# Altium schematic symbol library Header.SchLib: 57 symbols
Pins are listed as number, name and electrical type; pins without a type are passive.

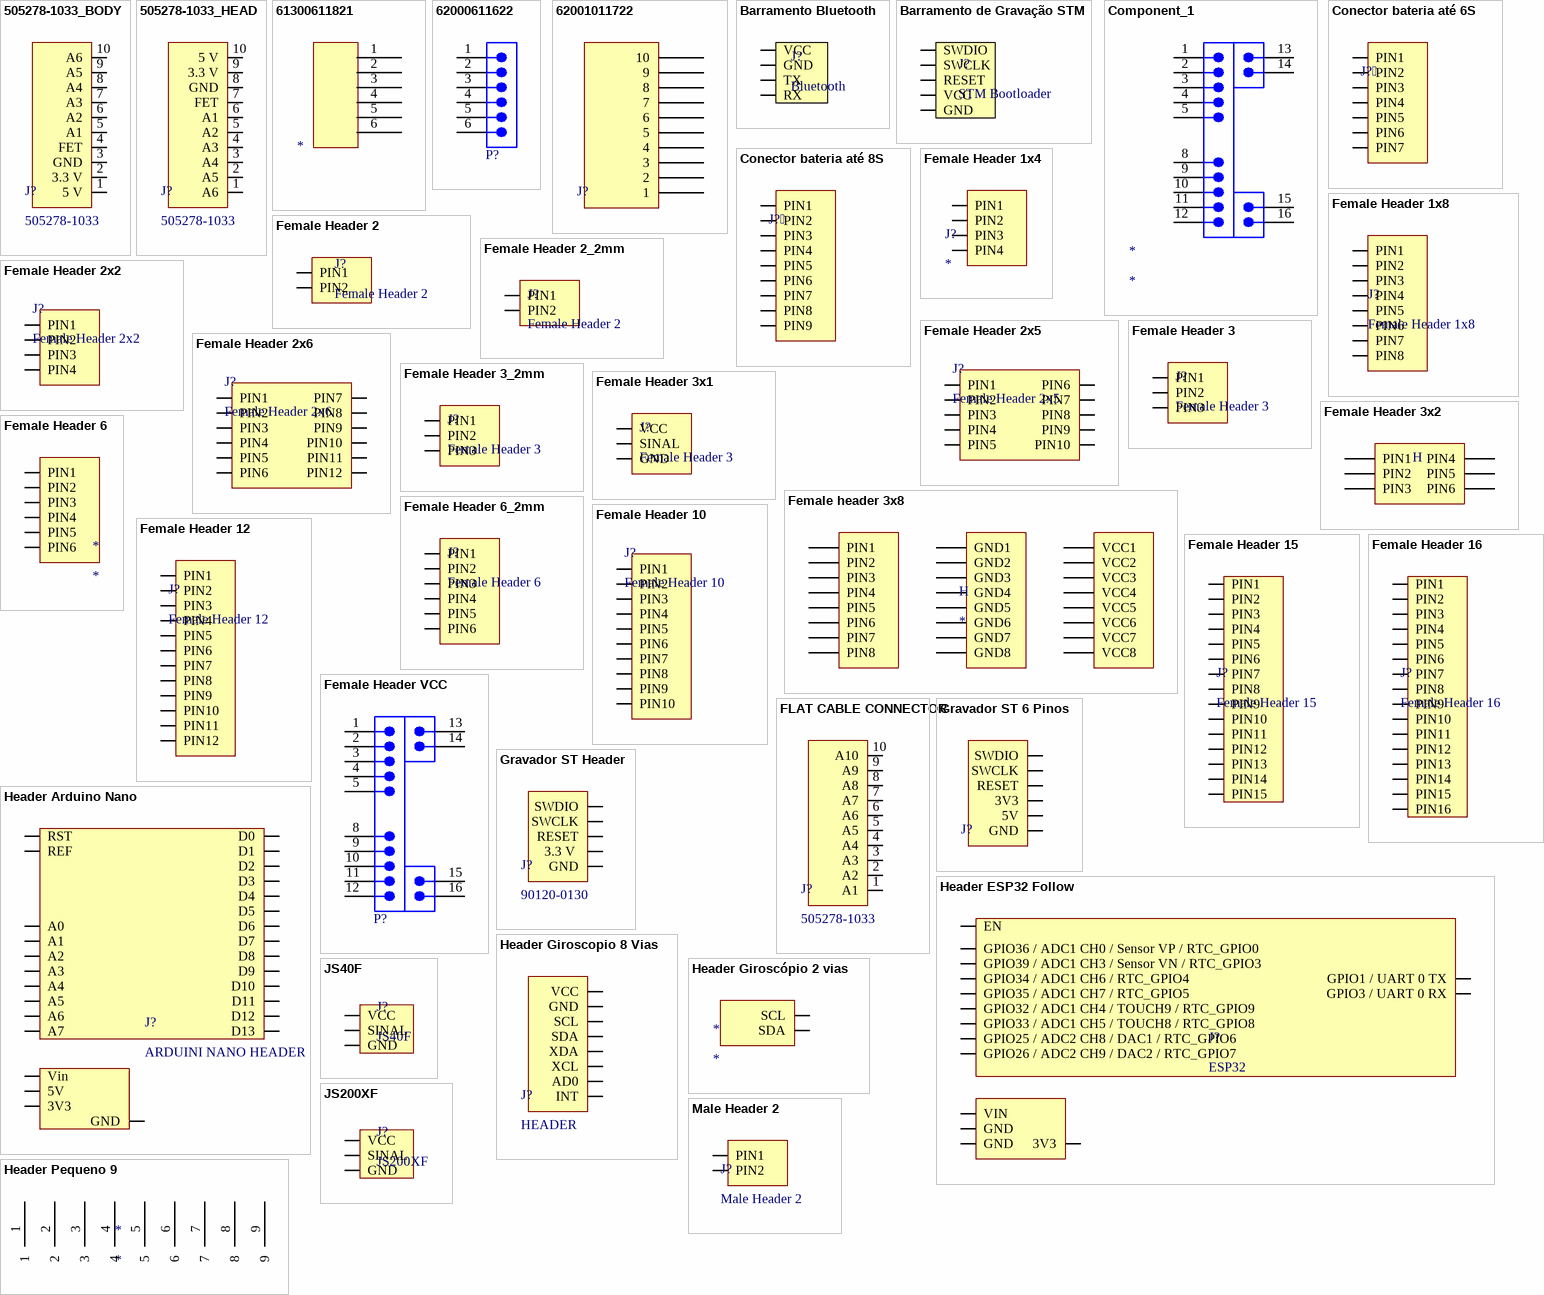
[diagram p0: symbols 505278-1033_BODY to Male Header 2]

## 505278-1033_BODY
designator J?, comment 505278-1033
CONN FFC/FPC HORZ 10POS 0.50MM; Manufacturer: Molex; Current Rating (Amps): 500mA; Number of Positions: 10; Library Control - Checked Footprint: Yes; Library Control - Last Project that Used: Follow-Final; Library Control - Person that Checked Footprint: Lucas; Library Control - Person that did the Last Update Footprint: Mateus(Dimas); Supplier 1: Mouser; Part Number: 505278-1033; Category: Connectors; Price: 1=0,51000, 10=0,42900, 100=0,33400 (USD); Mounting Type: Right Angle; Contact Material: Tin; Operating Temperature: -40°C ~ 85°C; Library Ref: Connectors; Number of Rows: 1; Termination: SMD; Insulation Material: Liquid Crystal Polymer; Contact Type: FFC/FPC; Pitch: 0.50mm; Contact Length - Mating: 0.50mm; Supplier Part Number 1: 538-505278-1033; Library Control - Checked Schematic: Yes; Library Control - Last Update: 24/04/2021 00:25; Library Control - Person that Checked Schematic: Lucas; Library Control - Person that did the Last Update Schematic: Mateus(Dimas); ComponentLink1Description: Datasheet; ComponentLink1URL: https://br.mouser.com/datasheet/2/276/2/5052781033_FFC_FPC_CONNECTORS-772019.pdf; ComponentLink2Description: Mouser Link; ComponentLink2URL: https://br.mouser.com/ProductDetail/Molex/505278-1033?qs=c8NFF48pVsDStgrQCBOSTg%3D%3D
footprint FPC_CON (Small Outline IC (SOIC), 1.27 mm pitch; 8 pin, 4.90 mm L X 3.90 mm W X 1.75 mm H body)
pins: 1 5 V, 2 3.3 V, 3 GND, 4 FET, 5 A1, 6 A2, 7 A3, 8 A4, 9 A5, 10 A6

## 505278-1033_HEAD
designator J?, comment 505278-1033
CONN FFC/FPC HORZ 10POS 0.50MM; Manufacturer: Molex; Current Rating (Amps): 500mA; Number of Positions: 10; Library Control - Checked Footprint: Yes; Library Control - Last Project that Used: Follow-Final; Library Control - Person that Checked Footprint: Lucas; Library Control - Person that did the Last Update Footprint: Mateus(Dimas); Supplier 1: Mouser; Part Number: 505278-1033; Category: Connectors; Price: 1=0,51000, 10=0,42900, 100=0,33400 (USD); Mounting Type: Right Angle; Contact Material: Tin; Operating Temperature: -40°C ~ 85°C; Library Ref: Connectors; Number of Rows: 1; Termination: SMD; Insulation Material: Liquid Crystal Polymer; Contact Type: FFC/FPC; Pitch: 0.50mm; Contact Length - Mating: 0.50mm; Supplier Part Number 1: 538-505278-1033; Library Control - Checked Schematic: Yes; Library Control - Last Update: 24/04/2021 00:25; Library Control - Person that Checked Schematic: Lucas; Library Control - Person that did the Last Update Schematic: Mateus(Dimas); ComponentLink1Description: Datasheet; ComponentLink1URL: https://br.mouser.com/datasheet/2/276/2/5052781033_FFC_FPC_CONNECTORS-772019.pdf; ComponentLink2Description: Mouser Link; ComponentLink2URL: https://br.mouser.com/ProductDetail/Molex/505278-1033?qs=c8NFF48pVsDStgrQCBOSTg%3D%3D
footprint FPC_CON (Small Outline IC (SOIC), 1.27 mm pitch; 8 pin, 4.90 mm L X 3.90 mm W X 1.75 mm H body)
pins: 1 A6, 2 A5, 3 A4, 4 A3, 5 A2, 6 A1, 7 FET, 8 GND, 9 3.3 V, 10 5 V

## 61300611821
designator *
footprint 61300611821
pins: 1, 2, 3, 4, 5, 6

## 62000611622
designator P?  (value not drawn)
WR-WTB Male Vertical Shrouded Header, pitch 2mm, 6pins; Manufacturer: Wurth Elektronik; Contact Resistance: 20mΩ; Rated Current: 2A; Working Voltage: 125VAC; Withstanding Voltage: 800VAC; ComponentLink1Description: Website Link; ComponentLink1URL: https://www.we-online.com/redexpert/article/62000611622?ad; ComponentLink2Description: Datasheet Link; ComponentLink2URL: https://www.we-online.com/redexpert/spec/62000611622?ad; Manufacturer Part Number: 62000611622; Category: Wire-to-Board Connectors; Match Code: WR-WTB; Mount: Through Hole; Operating Temperature Max: 85°C; Operating Temperature Min: -25°C; Packaging: Bag; Length: 14mm; Width: 4.7mm; Height: 6.1mm; Gender: Male; Number of Pins: 6; Number of Rows: 1; Orientation: Vertical; Pitch: 2mm
footprint 62000611622 (2.00mm Male Vertical Shrouded Header, 6p)
pins: 1, 2, 3, 4, 5, 6

## 62001011722
designator J?, comment WR-WTB 2.00mm  (value not drawn)
WR-WTB 2.00 mm Male Horizontal Shrouded Header
footprint WR-WTB 2.00 mm Male Horizontal Shrouded Header (62001011722)
pins: 1, 2, 3, 4, 5, 6, 7, 8, 9, 10

## Barramento Bluetooth
designator J?, comment Bluetooth
BARRAMENTO BLUETOOTH HC-06; Number of Contacts: 4; Bluetooth Mode: Slave Only; Operating Voltage: 3,6 / 6 (V); Max Range: 10m; Frequency: 2,4 GHz; Modulation: GFSK (Gaussian Frequency Shift Keying); Recomended Operating Configuration: 5V @ 50mA; Maximum Serial Transmission Rate: 9600 bps; Library Ref: Header
footprint BLUETOOTH
pins: GND, RX, TX, VCC

## Barramento de Gravação STM
designator J?, comment STM Bootloader
BARRAMENTO DE GRAVAÇÃO; Number of Contacts: 5; Library Ref: Header
footprint STM BOOTLOADER
pins: CLK SWCLK, DIO SWDIO, GND, RESET, VCC

## Component_1
designator *
footprint Female Header 2
footprint Female Header 12
pins: 1, 2, 3, 4, 5, 8, 9, 10, 11, 12, 13, 14, 15, 16

## Conector bateria até 6S
designator J?
Conector bateria até 6S; Number of Contacts: 7; Library Control - Person that did the Last Update Schematic: Marcos; System: Connector; Library Ref: Header; Library Control - Checked Footprint: *; Library Control - Checked Schematic: *; Library Control - Last Project that Used: *; Library Control - Last Update: *; Library Control - Person that Checked Footprint: *; Library Control - Person that Checked Schematic: *; Library Control - Persont that did the Last Update Footprint: Marcos
footprint Conector bateria 6S
pins: PIN1, PIN2, PIN3, PIN4, PIN5, PIN6, PIN7

## Conector bateria até 8S
designator J?
Conector bateria até 8S; Number of Contacts: 9; Library Control - Person that did the Last Update Schematic: Marcos; System: Connector; Library Ref: Header; Library Control - Checked Footprint: *; Library Control - Checked Schematic: *; Library Control - Last Project that Used: *; Library Control - Last Update: *; Library Control - Person that Checked Footprint: *; Library Control - Person that Checked Schematic: *; Library Control - Persont that did the Last Update Footprint: Marcos
footprint Conector bateria 8S
pins: PIN1, PIN2, PIN3, PIN4, PIN5, PIN6, PIN7, PIN8, PIN9

## Female Header 1x4
designator J?
Female Header 1x4
footprint Female Header 1x4
pins: PIN1, PIN2, PIN3, PIN4

## Female Header 1x8
designator J?
footprint Female Header 1x8
pins: PIN1, PIN2, PIN3, PIN4, PIN5, PIN6, PIN7, PIN8

## Female Header 2
designator J?
System: Connector
footprint Female Header 2
pins: PIN1, PIN2

## Female Header 2_2mm
designator J?, comment Female Header 2
Female Header 2_2mm; Number of Contacts: 3; System: Connector; Library Ref: Header
footprint Female Header 2-2mm
pins: PIN1, PIN2

## Female Header 2x2
designator J?
Number of Contacts: 4; Library Control - Person that did the Last Update Schematic: Lucas; System: Connector; Library Ref: Header; Library Control - Checked Footprint: *; Library Control - Checked Schematic: *; Library Control - Last Project that Used: *; Library Control - Last Update: *; Library Control - Person that Checked Footprint: *; Library Control - Person that Checked Schematic: *; Library Control - Persont that did the Last Update Footprint: Lucas
footprint Female Header 2X2
pins: PIN1, PIN2, PIN3, PIN4

## Female Header 2x5
designator J?
Number of Contacts: 10; Library Control - Person that did the Last Update Schematic: Lucas; System: Connector; Library Ref: Header; Library Control - Checked Footprint: *; Library Control - Checked Schematic: *; Library Control - Last Project that Used: *; Library Control - Last Update: *; Library Control - Person that Checked Footprint: *; Library Control - Person that Checked Schematic: *; Library Control - Persont that did the Last Update Footprint: Lucas
footprint Female Header 2x5
pins: PIN1, PIN2, PIN3, PIN4, PIN5, PIN6, PIN7, PIN8, PIN9, PIN10

## Female Header 2x6
designator J?
Number of Contacts: 12; Library Control - Person that did the Last Update Schematic: Lucas; System: Connector; Library Ref: Header; Library Control - Checked Footprint: *; Library Control - Checked Schematic: *; Library Control - Last Project that Used: *; Library Control - Last Update: *; Library Control - Person that Checked Footprint: *; Library Control - Person that Checked Schematic: *; Library Control - Persont that did the Last Update Footprint: Lucas
footprint FEMALE HEADER 6x2
pins: PIN1, PIN2, PIN3, PIN4, PIN5, PIN6, PIN7, PIN8, PIN9, PIN10, PIN11, PIN12

## Female Header 3
designator J?
Number of Contacts: 3; System: Connector; Library Ref: Header
footprint FEMALE HEADER 3
pins: PIN1, PIN2, PIN3

## Female Header 3_2mm
designator J?, comment Female Header 3
Female Header 3_2mm; Number of Contacts: 3; System: Connector; Library Ref: Header
footprint Female Header 3-2mm
pins: PIN1, PIN2, PIN3

## Female Header 3x1
designator J?, comment Female Header 3
Number of Contacts: 3; System: Connector; Library Ref: Header
footprint FEMALE HEADER 3
pins: PIN1 VCC, PIN2 SINAL, PIN3 GND

## Female Header 3x2
designator H
Female Header 3x2
footprint Female Header 3x2
pins: PIN1, PIN2, PIN3, PIN4, PIN5, PIN6

## Female header 3x8
designator H
Female header 3x8
footprint FEMALE HEADER 3X8
pins: GND1 (power), GND2 (power), GND3 (power), GND4 (power), GND5 (power), GND6 (power), GND7 (power), GND8 (power), PIN1 (power), PIN2 (power), PIN3 (power), PIN4 (power), PIN5 (power), PIN6 (power), PIN7 (power), PIN8 (power), VCC1 (power), VCC2 (power), VCC3 (power), VCC4 (power), VCC5 (power), VCC6 (power), VCC7 (power), VCC8 (power)

## Female Header 6
designator *
footprint FEMALE HEADER 6
pins: PIN1, PIN2, PIN3, PIN4, PIN5, PIN6

## Female Header 6_2mm
designator J?, comment Female Header 6
Female Header 6_2mm; Number of Contacts: 3; System: Connector; Library Ref: Header
footprint Female Header 6-2mm
pins: PIN1, PIN2, PIN3, PIN4, PIN5, PIN6

## Female Header 10
designator J?
Number of Contacts: 10; Library Control - Person that did the Last Update Schematic: Lucas; System: Connector; Library Ref: Header; Library Control - Checked Footprint: *; Library Control - Checked Schematic: *; Library Control - Last Project that Used: *; Library Control - Last Update: *; Library Control - Person that Checked Footprint: *; Library Control - Person that Checked Schematic: *; Library Control - Persont that did the Last Update Footprint: Lucas
footprint Female Header 10
pins: PIN1, PIN2, PIN3, PIN4, PIN5, PIN6, PIN7, PIN8, PIN9, PIN10

## Female Header 12
designator J?
Number of Contacts: 12; Library Control - Person that did the Last Update Schematic: Marcos; System: Connector; Library Ref: Header; Library Control - Checked Footprint: *; Library Control - Checked Schematic: *; Library Control - Last Project that Used: *; Library Control - Last Update: *; Library Control - Person that Checked Footprint: *; Library Control - Person that Checked Schematic: *; Library Control - Persont that did the Last Update Footprint: Marcos
footprint Female Header 12
pins: PIN1, PIN2, PIN3, PIN4, PIN5, PIN6, PIN7, PIN8, PIN9, PIN10, PIN11, PIN12

## Female Header 15
designator J?
Number of Contacts: 15; Library Control - Checked Footprint: Nikaum; System: Connector; Library Ref: Header; Library Control - Checked Schematic: Nikaum; Library Control - Last Project that Used: *; Library Control - Last Update: *; Library Control - Person that Checked Footprint: *; Library Control - Person that Checked Schematic: *; Library Control - Person that did the Last Update Schematic: Nikaum; Library Control - Persont that did the Last Update Footprint: Nikaum
footprint Female Header 15
pins: PIN1, PIN2, PIN3, PIN4, PIN5, PIN6, PIN7, PIN8, PIN9, PIN10, PIN11, PIN12, PIN13, PIN14, PIN15

## Female Header 16
designator J?
Number of Contacts: 16; Library Control - Checked Footprint: Cage; System: Connector; Library Ref: Header; Library Control - Checked Schematic: Cage; Library Control - Last Project that Used: *; Library Control - Last Update: 25/05/23; Library Control - Person that Checked Footprint: *; Library Control - Person that Checked Schematic: *; Library Control - Person that did the Last Update Schematic: Cage; Library Control - Persont that did the Last Update Footprint: Cage
footprint FEMALE HEADER 16
pins: PIN1, PIN2, PIN3, PIN4, PIN5, PIN6, PIN7, PIN8, PIN9, PIN10, PIN11, PIN12, PIN13, PIN14, PIN15, PIN16

## Female Header VCC
designator P?, comment 61301211121  (value not drawn)
WR-PHD Pin Header, THT, Vertical, pitch 2.54mm, 1 Row, 12P; Manufacturer: Wurth Elektronik; Contact Resistance: 20mΩ; Rated Current: 3A; Working Voltage: 250V; Withstanding Voltage: 500V; ComponentLink1Description: Website Link; ComponentLink1URL: https://www.we-online.com/redexpert/article/61301211121?ad; ComponentLink2Description: Datasheet Link; ComponentLink2URL: https://www.we-online.com/redexpert/spec/61301211121?ad; Manufacturer Part Number: 61301211121; Category: Board-to-Board Connectors; Match Code: WR-PHD; Mount: Through Hole; Operating Temperature Max: 105°C; Operating Temperature Min: -40°C; Packaging: Bag; Gender: Pin Header; Number of Pins: 12; Number of Rows: 1; Orientation: Vertical; Pitch: 2.54mm
footprint FEMALE HEADER 12 EM C
pins: 1, 2, 3, 4, 5, 8, 9, 10, 11, 12, 13, 14, 15, 16

## FLAT CABLE CONNECTOR
designator J?, comment 505278-1033
CONN FFC/FPC HORZ 10POS 0.50MM; Manufacturer: Molex; Current Rating (Amps): 500mA; Number of Positions: 10; Library Control - Checked Footprint: Yes; Library Control - Last Project that Used: Follow-Final; Library Control - Person that Checked Footprint: Lucas; Library Control - Person that did the Last Update Footprint: Mateus(Dimas); Supplier 1: Mouser; Part Number: 505278-1033; Category: Connectors; Price: 1=0,51000, 10=0,42900, 100=0,33400 (USD); Mounting Type: Right Angle; Contact Material: Tin; Operating Temperature: -40°C ~ 85°C; Library Ref: Connectors; Number of Rows: 1; Termination: SMD; Insulation Material: Liquid Crystal Polymer; Contact Type: FFC/FPC; Pitch: 0.50mm; Contact Length - Mating: 0.50mm; Supplier Part Number 1: 538-505278-1033; Library Control - Checked Schematic: Yes; Library Control - Last Update: 24/04/2021 00:25; Library Control - Person that Checked Schematic: Lucas; Library Control - Person that did the Last Update Schematic: Mateus(Dimas); ComponentLink1Description: Datasheet; ComponentLink1URL: https://br.mouser.com/datasheet/2/276/2/5052781033_FFC_FPC_CONNECTORS-772019.pdf; ComponentLink2Description: Mouser Link; ComponentLink2URL: https://br.mouser.com/ProductDetail/Molex/505278-1033?qs=c8NFF48pVsDStgrQCBOSTg%3D%3D
footprint FPC_CON (Small Outline IC (SOIC), 1.27 mm pitch; 8 pin, 4.90 mm L X 3.90 mm W X 1.75 mm H body)
pins: 1 A1, 2 A2, 3 A3, 4 A4, 5 A5, 6 A6, 7 A7, 8 A8, 9 A9, 10 A10

## Gravador ST 6 Pinos
designator J?, comment Header  (value not drawn)
Header Vertical 6 Pinos 2.54mm
footprint STM BOOTLOADER 6 PIN V1 (Header 6 pin)
footprint STM BOOTLOADER 6 PIN V2 (Header 6 pin)
pins: 3V3, 5V, CLK SWCLK, DIO SWDIO, GND, RESET

## Gravador ST Header
designator J?, comment 90120-0130
CONN HEADER VERT 5POS 2.54MM; Manufacturer: Molex; Current Rating (Amps): 3A; Number of Positions: 10; Contact Length - Mating: 2.90mm; Shrouding: No; Library Control - Checked Footprint: Yes; Library Control - Last Project that Used: Follow-Final; Library Control - Person that Checked Footprint: Lucas; Library Control - Person that did the Last Update Footprint: Mateus(Dimas); Supplier 1: Mouser; Part Number: 90120-0130; Category: Connectors; Price: 1=1,03000, 10=0,85500, 100=0,71200 (USD); Mounting Type: Through Hole; Contact Material: Tin; Operating Temperature: -55°C ~ 125°C; Library Ref: Connectors; Number of Rows: 1; Termination: Solder; Insulation Material: Polyester; Contact Type: Male Pin; Pitch: 2.54mm; Supplier Part Number 1: 538-90120-0130; Library Control - Checked Schematic: Yes; Library Control - Last Update: 24/04/2021 00:25; Library Control - Person that Checked Schematic: Lucas; Library Control - Person that did the Last Update Schematic: Mateus(Dimas); ComponentLink1Description: Datasheet; ComponentLink1URL: https://br.mouser.com/datasheet/2/276/1/0901200130_PCB_HEADERS-230424.pdf; ComponentLink2Description: Mouser Link; ComponentLink2URL: https://br.mouser.com/ProductDetail/Molex/90120-0130?qs=%2Fha2pyFadujqg59qjGW4yJgp9NLYVsw150yd8op0CsE%3D
footprint MALE HEADER 5 (Header, Vertical, 2.54 mm pitch; 0.66 mm lead width, 5 pins, 1 row, 5 pins per row, 12.70 mm L X 2.49 mm W X 9.02 mm H body)
pins: 1 SWDIO, 2 SWCLK, 3 RESET, 4 3.3 V , 5 GND

## Header Arduino Nano
designator J?, comment ARDUINI NANO HEADER
footprint ARDUINO NANO
pins: 3V3, 5V, A0, A1, A2, A3, A4, A5, A6, A7, D0, D1, D2, D3, D4, D5, D6, D7, D8, D9, D10, D11, D12, D13, GND, REF, RST, Vin

## Header ESP32 Follow
designator J?, comment ESP32
Header Modulo ESP32; Number of Contacts: 15; Library Control - Checked Footprint: Nikaum; Library Ref: Header; Library Control - Checked Schematic: Nikaum; Library Control - Last Project that Used: *; Library Control - Last Update: *; Library Control - Person that Checked Footprint: *; Library Control - Person that Checked Schematic: *; Library Control - Person that did the Last Update Schematic: Nikaum; Library Control - Persont that did the Last Update Footprint: Nikaum
footprint HEADER ESP32 FOLLOW
pins: 3V3, EN, GND, GND, PIN2 GPIO36 / ADC1 CH0 / Sensor VP / RTC_GPIO0, PIN3 GPIO39 / ADC1 CH3 / Sensor VN / RTC_GPIO3, PIN4 GPIO34 / ADC1 CH6 / RTC_GPIO4, PIN5 GPIO35 / ADC1 CH7 / RTC_GPIO5, PIN6 GPIO32 / ADC1 CH4 / TOUCH9 / RTC_GPIO9, PIN7 GPIO33 / ADC1 CH5 / TOUCH8 / RTC_GPIO8, PIN8 GPIO25 / ADC2 CH8 / DAC1 / RTC_GPIO6, PIN9 GPIO26 / ADC2 CH9 / DAC2 / RTC_GPIO7, PIN18 GPIO1 / UART 0 TX, PIN19 GPIO3 / UART 0 RX, VIN

## Header Giroscopio 8 Vias
designator J?, comment HEADER
Header do giroscópio de 8 vias
footprint Header Giroscopio 8 Vias
pins: AD0, GND, INT, SCL, SDA, VCC, XCL, XDA

## Header Giroscópio 2 vias
designator *
footprint HEADER GIROSCOPIO 2 VIAS (Header duas vias giroscopio)
pins: SCL, SDA

## Header Pequeno 9
designator *
footprint Small HEADER 9
pins: 1, 2, 3, 4, 5, 6, 7, 8, 9

## JS40F
designator J?
JS40F HEADER 3 PIN; Voltage (min - max): 3.3V to 5V; Wire: 15cm; Library Control - Checked Footprint: Yes; Library Control - Person that Checked Footprint: Nikaum; Library Control - Person that did the Last Update Footprint: Salsicha; White distancing: 80cm; Black distancing: 40cm; Responsing time: 0.3s; Output type: Digital; Part Number: JS40F; Package: 17.7mm Length x 11.5mm Width x 12.6mm Height; Weight: 4g; ComponentLink1Description: Supplier link; ComponentLink1URL: https://www.jsumo.com/js40f-digital-distance-sensor-min-40-cm-range; Library Control - Last Update: 15/06/2021; Library Control - Person that Checked Schematic: Nikaum; Library Control - Person that did the Last Update Schematic: Salsicha; Price: $14.90; Library Control - Checked Schematic: Yes
footprint HEADER 3 PIN SENSOR
pins: GND, SIN SINAL, VCC

## JS200XF
designator J?
JS200XF HEADER 3 PIN; Voltage: 5V; Wire: 15cm; Library Control - Checked Footprint: Yes; Library Control - Person that Checked Footprint: Nikaum; Output type: Digital; White / Black Sensoring: +200 / 200 (cm); Draw Current: 15 mA; Refresh Rate: 600 Hz; Response Time: 1,68 ms; Part Number: JS200XF; Package: 17.7mm Length x 11.5mm Width x 12.6mm Height; Weight: 8g; ComponentLink1Description: Supplier link; ComponentLink1URL: https://www.jsumo.com/js200xf-infrared-long-range-sensor; Library Control - Last Update: 15/06/2021; Library Control - Person that Checked Schematic: Nikaum; Library Control - Person that did the Last Update Footprint: Nikaum; Library Control - Person that did the Last Update Schematic: Nikaum; Price: 33,50 (USD); Library Control - Checked Schematic: Yes
footprint HEADER 3 PIN SENSOR
pins: GND, SIN SINAL, VCC

## Male Header 2
designator J?
Number of Contacts: 2; Library Control - Person that did the Last Update Schematic: Marcos; System: Connector; Library Ref: Header; Library Control - Checked Footprint: *; Library Control - Checked Schematic: *; Library Control - Last Project that Used: *; Library Control - Last Update: *; Library Control - Person that Checked Footprint: *; Library Control - Person that Checked Schematic: *; Library Control - Persont that did the Last Update Footprint: Marcos
footprint MALE HEADER 2
pins: PIN1, PIN2

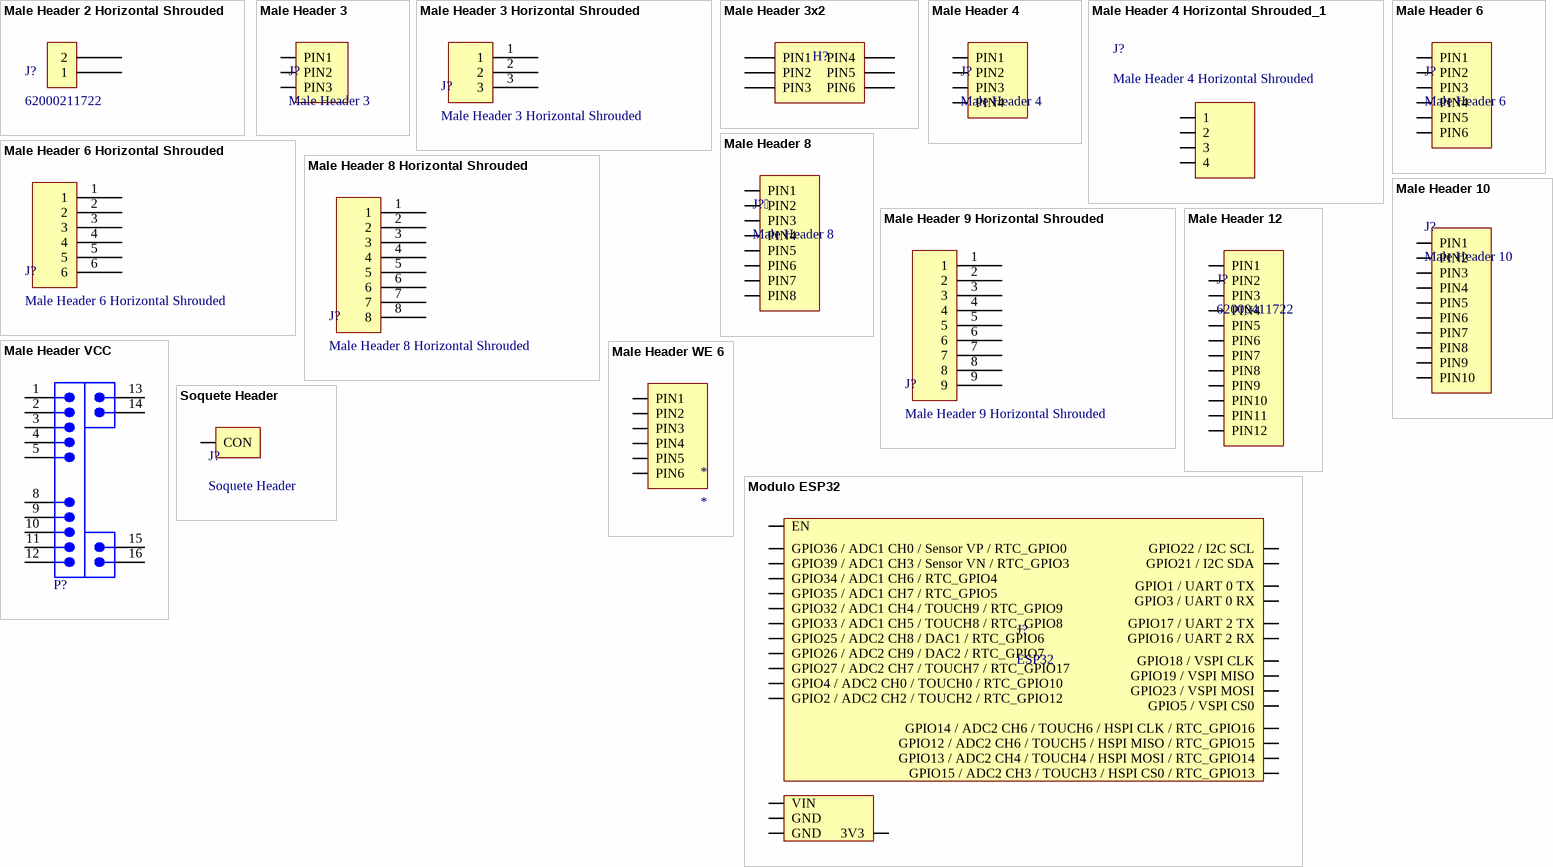
[diagram p1: symbols Male Header 2 Horizontal Shrouded to Soquete Header]

## Male Header 2 Horizontal Shrouded
designator J?, comment 62000211722
Board Connector, 2 Contact(s), 1 Row(s), Male, Right Angle, 0.079 inch Pitch, Solder Kinked Leads Terminal, Locking, White Insulator, Receptacle; Manufacturer: Wurth Electronics; Manufacturer Series: 6200; Additional Feature: ROHS COMPLIANT; Contact Pattern: RECTANGULAR; Contact Resistance: 20mR; Contact Style: SQ PIN-SKT; Dielectric Withstanding Voltage (AC): 800V; Durability: 25Cycles; Insulation Resistance: 1GR; Number Of Connectors: 1; Polarization Key: POLARIZED HOUSING; Rated Current (Signal): 2A; Number of Contacts: 2; Body Breadth: 0.177inch; Body Depth: 0.299inch; Body Length: 0.236inch; Reference Standard: UL; Reliability: COMMERCIAL; Supplier: Digikey; Supplier Part Number: 732-62000211722-ND; Manufacturer Part Number: 62000211722; RoHS: Yes; Stock: 514; Pricing: 1=0,1, 50=0,0512, 100=0,0486, 250=0,04592, 500=0,0432 (USD); Mounting Technology: Board; Contact Material: Copper Alloy; Contact Finish - Mating: TIN; Contact Finish - Termination: Tin (Sn) - with Nickel (Ni) barrier; Insulation Color: White; Insulation Material: Polyamide; Min Operating Temperature: -25°C; Max Operating Temperature: 85°C; Connector Type: BOARD CONNECTOR; JESD-609 Code: e3; Body/Shell Style: RECEPTACLE; Contact Gender: Male; Mounting Style: RIGHT ANGLE; Number Of PCB Rows: 1; Number of Rows Loaded: 1; PCB Contact Pattern: RECTANGULAR; Termination: Solder; Mating Contact Pitch: 0.079inch; Mounting Option 1: LOCKING; Terminal Length: 0.13inch; Terminal Pitch: 2.0066mm; Reach SVHC Compliant: Yes; RoHS Compliant: Yes; ComponentLink1URL: https://datasheet.ciiva.com:443/pdfs/VipMasterIC/IC/MIDC/MIDC-S-A0004022482/MIDC-S-A0004022482-1.pdf?src-supplier=IHS+Markit; ComponentLink1Description: https://datasheet.ciiva.com:443/pdfs/VipMasterIC/IC/MIDC/MIDC-S-A0004022482/MIDC-S-A0004022482-1.pdf?src-supplier=IHS+Markit
footprint MALE HEADER 2 HORIZONTAL SHROUDED (Header Wurth 2 pin)
pins: 1, 2

## Male Header 3
designator J?
Number of Contacts: 3; Library Control - Person that did the Last Update Schematic: Guilherme; System: Connector; Library Ref: Header; Library Control - Checked Footprint: *; Library Control - Checked Schematic: *; Library Control - Last Project that Used: *; Library Control - Last Update: *; Library Control - Person that Checked Footprint: *; Library Control - Person that Checked Schematic: *; Library Control - Persont that did the Last Update Footprint: Guilherme
footprint MALE HEADER 3
pins: PIN1, PIN2, PIN3

## Male Header 3 Horizontal Shrouded
designator J?
Manufacturer: Wurth Electronics; Manufacturer Part Number: 62000311722; Connector Type: BOARD CONNECTOR; Additional Feature: ROHS COMPLIANT; Body/Shell Style: RECEPTACLE; Contact Pattern: RECTANGULAR; Contact Resistance: 20mR; Contact Style: SQ PIN-SKT; Dielectric Withstanding Voltage (AC): 800V; Durability: 25Cycles; Insulation Resistance: 1GR; Number Of Connectors: 1; Polarization Key: POLARIZED HOUSING; Rated Current (Signal): 2A; Number of Contacts: 3; Body Breadth: 0.177inch; Body Depth: 0.299inch; Body Length: 0.315inch; Mating Contact Pitch: 0.079inch; Mounting Option 1: LOCKING; Reference Standard: UL; Reliability: COMMERCIAL; Supplier: Newark; Supplier Part Number: 75AJ1538; RoHS: Yes; Pricing: 100=0,106, 500=0,092 (USD); Mounting Technology: Board; Contact Finish - Mating: NOT SPECIFIED; Contact Finish - Termination: Tin (Sn) - with Nickel (Ni) barrier; Insulation Color: White; Insulation Material: Polyamide; Min Operating Temperature: -25°C; Max Operating Temperature: 85°C; JESD-609 Code: e3; Contact Gender: Male; Mounting Style: RIGHT ANGLE; Number Of PCB Rows: 1; Number of Rows Loaded: 1; PCB Contact Pattern: RECTANGULAR; Termination: Solder; Terminal Length: 0.13inch; Terminal Pitch: 2.0066mm; Reach SVHC Compliant: Yes; RoHS Compliant: Yes; ComponentLink1URL: https://datasheet.ciiva.com:443/pdfs/VipMasterIC/IC/MIDC/MIDC-S-A0004022482/MIDC-S-A0004022482-1.pdf?src-supplier=IHS+Markit; ComponentLink1Description: https://datasheet.ciiva.com:443/pdfs/VipMasterIC/IC/MIDC/MIDC-S-A0004022482/MIDC-S-A0004022482-1.pdf?src-supplier=IHS+Markit; ComponentLink2URL: https://datasheet.octopart.com/62000311722-Wurth-Elektronik-datasheet-117282004.pdf?src-supplier=Newark; ComponentLink2Description: https://datasheet.octopart.com/62000311722-Wurth-Elektronik-datasheet-117282004.pdf?src-supplier=Newark
footprint MALE HEADER 3 HORIZONTAL SHROUDED
pins: 1, 2, 3

## Male Header 3x2
designator H?
Male Header 3x2
footprint Male Header 3x2
pins: PIN1, PIN2, PIN3, PIN4, PIN5, PIN6

## Male Header 4
designator J?
Number of Contacts: 4; Library Control - Person that did the Last Update Schematic: Marcos; System: Connector; Library Ref: Header; Library Control - Checked Footprint: *; Library Control - Checked Schematic: *; Library Control - Last Project that Used: *; Library Control - Last Update: *; Library Control - Person that Checked Footprint: *; Library Control - Person that Checked Schematic: *; Library Control - Persont that did the Last Update Footprint: Marcos
footprint MALE HEADER 4
pins: PIN1, PIN2, PIN3, PIN4

## Male Header 4 Horizontal Shrouded_1
designator J?, comment Male Header 4 Horizontal Shrouded
Manufacturer: Wurth Electronics; Manufacturer Part Number: 62000411722; Manufacturer Series: 6200; Connector Type: BOARD CONNECTOR; Additional Feature: ROHS COMPLIANT; Body/Shell Style: RECEPTACLE; Contact Pattern: RECTANGULAR; Contact Resistance: 20mR; Contact Style: SQ PIN-SKT; Dielectric Withstanding Voltage (AC): 800V; Durability: 25Cycles; Insulation Resistance: 1GR; Number Of Connectors: 1; Polarization Key: POLARIZED HOUSING; Rated Current (Signal): 2A; Number of Contacts: 4; Body Breadth: 0.177inch; Body Depth: 0.299inch; Body Length: 0.394inch; Mating Contact Pitch: 0.079inch; Mounting Option 1: LOCKING; Reference Standard: UL; Reliability: COMMERCIAL; Supplier: Digikey; Supplier Part Number: 732-62000411722-ND; RoHS: Yes; Stock: 267; Pricing: 1=0,13, 10=0,121, 100=0,1152, 250=0,11072, 500=0,1062 (USD); Mounting Technology: Board; Contact Material: Copper Alloy; Contact Finish - Mating: SN; Contact Finish - Termination: Tin (Sn) - with Nickel (Ni) barrier; Insulation Color: White; Insulation Material: Polyamide; Min Operating Temperature: -25°C; Max Operating Temperature: 85°C; JESD-609 Code: e3; Contact Gender: Male; Mounting Style: RIGHT ANGLE; Number Of PCB Rows: 1; Number of Rows Loaded: 1; PCB Contact Pattern: RECTANGULAR; Termination: Solder; Terminal Length: 0.13inch; Terminal Pitch: 2.0066mm; Reach SVHC Compliant: Yes; RoHS Compliant: Yes; ComponentLink1URL: https://datasheet.ciiva.com:443/pdfs/VipMasterIC/IC/MIDC/MIDCS07346/MIDCS16640-1.pdf?src-supplier=IHS+Markit; ComponentLink1Description: https://datasheet.ciiva.com:443/pdfs/VipMasterIC/IC/MIDC/MIDCS07346/MIDCS16640-1.pdf?src-supplier=IHS+Markit
footprint MALE HEADER 4 HORIZONTAL SHROUDED
pins: 1, 2, 3, 4

## Male Header 6
designator J?
Number of Contacts: 6; Library Control - Checked Footprint: Yes; Library Control - Person that Checked Footprint: Cage; System: Connector; Library Ref: Header; Library Control - Checked Schematic: Yes; Library Control - Last Project that Used: *; Library Control - Last Update: 02/10/2022; Library Control - Person that Checked Schematic: Cage; Library Control - Person that did the Last Update Schematic: Cage; Library Control - Persont that did the Last Update Footprint: Cage
footprint MALE HEADER 6
pins: PIN1, PIN2, PIN3, PIN4, PIN5, PIN6

## Male Header 6 Horizontal Shrouded
designator J?
Male Male 6 Horizontal Shrouded; Manufacturer: Wurth Electronics; Manufacturer Part Number: 62000611722; Manufacturer Series: 6200; Connector Type: BOARD CONNECTOR; Additional Feature: ROHS COMPLIANT; Body/Shell Style: RECEPTACLE; Contact Pattern: RECTANGULAR; Contact Resistance: 20mR; Contact Style: SQ PIN-SKT; Dielectric Withstanding Voltage (AC): 800V; Durability: 25Cycles; Insulation Resistance: 1GR; Number Of Connectors: 1; Polarization Key: POLARIZED HOUSING; Rated Current (Signal): 2A; Number of Contacts: 6; Body Breadth: 0.177inch; Body Depth: 0.299inch; Body Length: 0.551inch; Mating Contact Pitch: 0.079inch; Mounting Option 1: LOCKING; Reference Standard: UL; Reliability: COMMERCIAL; Parameter 1: *; Supplier: Newark; Supplier Part Number: 75AJ1544; RoHS: Yes; Category: LDO; Stock: 660; Pricing: 10=0,36, 25=0,303, 50=0,242, 100=0,206, 500=0,176 (USD); Mounting Technology: Board; Contact Material: Copper Alloy; Contact Finish - Mating: TIN; Contact Finish - Termination: Tin (Sn) - with Nickel (Ni) barrier; Insulation Color: White; Insulation Material: Polyamide; Min Operating Temperature: -25°C; Max Operating Temperature: 85°C; JESD-609 Code: e3; Contact Gender: Male; Mounting Style: RIGHT ANGLE; Number Of PCB Rows: 1; Number of Rows Loaded: 1; PCB Contact Pattern: RECTANGULAR; Termination: Solder; Terminal Length: 0.13inch; Terminal Pitch: 2.0066mm; Reach SVHC Compliant: Yes; RoHS Compliant: Yes; ComponentLink1URL: https://datasheet.ciiva.com:443/pdfs/VipMasterIC/IC/MIDC/MIDC-S-A0004022482/MIDC-S-A0004022482-1.pdf?src-supplier=IHS+Markit; ComponentLink1Description: https://datasheet.ciiva.com:443/pdfs/VipMasterIC/IC/MIDC/MIDC-S-A0004022482/MIDC-S-A0004022482-1.pdf?src-supplier=IHS+Markit
footprint MALE HEADER 6 HORIZONTAL SHROUDED
pins: 1, 2, 3, 4, 5, 6

## Male Header 8
designator J?
Number of Contacts: 8; Library Control - Person that did the Last Update Schematic: Marcos; System: Connector; Library Ref: Header; Library Control - Checked Footprint: *; Library Control - Checked Schematic: *; Library Control - Last Project that Used: *; Library Control - Last Update: *; Library Control - Person that Checked Footprint: *; Library Control - Person that Checked Schematic: *; Library Control - Persont that did the Last Update Footprint: Marcos
footprint MALE HEADER 8
pins: PIN1, PIN2, PIN3, PIN4, PIN5, PIN6, PIN7, PIN8

## Male Header 8 Horizontal Shrouded
designator J?
Manufacturer: Wurth Electronics; Manufacturer Part Number: 62000811722; Supplier: Newark; Supplier Part Number: 75AJ1550; RoHS: No; Stock: 650; Pricing: 10=0,463, 25=0,389, 50=0,312, 100=0,265, 500=0,226 (USD)
footprint MALE HEADER 8 HORIZONTAL SHROUDED
pins: 1, 2, 3, 4, 5, 6, 7, 8

## Male Header 9 Horizontal Shrouded
designator J?
Manufacturer: Wurth Electronics; Manufacturer Part Number: 62000411722; Manufacturer Series: 6200; Connector Type: BOARD CONNECTOR; Additional Feature: ROHS COMPLIANT; Body/Shell Style: RECEPTACLE; Contact Pattern: RECTANGULAR; Contact Resistance: 20mR; Contact Style: SQ PIN-SKT; Dielectric Withstanding Voltage (AC): 800V; Durability: 25Cycles; Insulation Resistance: 1GR; Number Of Connectors: 1; Polarization Key: POLARIZED HOUSING; Rated Current (Signal): 2A; Number of Contacts: 4; Body Breadth: 0.177inch; Body Depth: 0.299inch; Body Length: 0.394inch; Mating Contact Pitch: 0.079inch; Mounting Option 1: LOCKING; Reference Standard: UL; Reliability: COMMERCIAL; Supplier: Digikey; Supplier Part Number: 732-62000411722-ND; RoHS: Yes; Stock: 267; Pricing: 1=0,13, 10=0,121, 100=0,1152, 250=0,11072, 500=0,1062 (USD); Mounting Technology: Board; Contact Material: Copper Alloy; Contact Finish - Mating: SN; Contact Finish - Termination: Tin (Sn) - with Nickel (Ni) barrier; Insulation Color: White; Insulation Material: Polyamide; Min Operating Temperature: -25°C; Max Operating Temperature: 85°C; JESD-609 Code: e3; Contact Gender: Male; Mounting Style: RIGHT ANGLE; Number Of PCB Rows: 1; Number of Rows Loaded: 1; PCB Contact Pattern: RECTANGULAR; Termination: Solder; Terminal Length: 0.13inch; Terminal Pitch: 2.0066mm; Reach SVHC Compliant: Yes; RoHS Compliant: Yes; ComponentLink1URL: https://datasheet.ciiva.com:443/pdfs/VipMasterIC/IC/MIDC/MIDCS07346/MIDCS16640-1.pdf?src-supplier=IHS+Markit; ComponentLink1Description: https://datasheet.ciiva.com:443/pdfs/VipMasterIC/IC/MIDC/MIDCS07346/MIDCS16640-1.pdf?src-supplier=IHS+Markit; ComponentLink2URL: https://datasheet.octopart.com/62000911722-Wurth-Elektronik-datasheet-117282004.pdf?src-supplier=Newark; ComponentLink2Description: https://datasheet.octopart.com/62000911722-Wurth-Elektronik-datasheet-117282004.pdf?src-supplier=Newark
footprint MALE HEADER 9 HORIZONTAL SHROUDED
pins: 1, 2, 3, 4, 5, 6, 7, 8, 9

## Male Header 10
designator J?
Number of Contacts: 10; Library Control - Person that did the Last Update Schematic: Lucas; System: Connector; Library Ref: Header; Library Control - Checked Footprint: *; Library Control - Checked Schematic: *; Library Control - Last Project that Used: *; Library Control - Last Update: *; Library Control - Person that Checked Footprint: *; Library Control - Person that Checked Schematic: *; Library Control - Persont that did the Last Update Footprint: Lucas
footprint MALE HEADER 10
pins: PIN1, PIN2, PIN3, PIN4, PIN5, PIN6, PIN7, PIN8, PIN9, PIN10

## Male Header 12
designator J?, comment 62000411722
Male Header 12; Number of Contacts: 12; Library Control - Person that did the Last Update Schematic: Marcos; System: Connector; Library Ref: Header; Library Control - Checked Footprint: *; Library Control - Checked Schematic: *; Library Control - Last Project that Used: *; Library Control - Last Update: *; Library Control - Person that Checked Footprint: *; Library Control - Person that Checked Schematic: *; Library Control - Persont that did the Last Update Footprint: Marcos
footprint MALE HEADER 12
pins: PIN1, PIN2, PIN3, PIN4, PIN5, PIN6, PIN7, PIN8, PIN9, PIN10, PIN11, PIN12

## Male Header VCC
designator P?, comment 61301211121  (value not drawn)
WR-PHD Pin Header, THT, Vertical, pitch 2.54mm, 1 Row, 12P; Manufacturer: Wurth Elektronik; Contact Resistance: 20mΩ; Rated Current: 3A; Working Voltage: 250V; Withstanding Voltage: 500V; ComponentLink1Description: Website Link; ComponentLink1URL: https://www.we-online.com/redexpert/article/61301211121?ad; ComponentLink2Description: Datasheet Link; ComponentLink2URL: https://www.we-online.com/redexpert/spec/61301211121?ad; Manufacturer Part Number: 61301211121; Category: Board-to-Board Connectors; Match Code: WR-PHD; Mount: Through Hole; Operating Temperature Max: 105°C; Operating Temperature Min: -40°C; Packaging: Bag; Gender: Pin Header; Number of Pins: 12; Number of Rows: 1; Orientation: Vertical; Pitch: 2.54mm
footprint Header_Vcc (Pin Header, pitch 2.54 mm, THT, Vertical, single row, 12p)
pins: 1, 2, 3, 4, 5, 8, 9, 10, 11, 12, 13, 14, 15, 16

## Male Header WE 6
designator *
footprint MACHO HEADER 6
pins: PIN1, PIN2, PIN3, PIN4, PIN5, PIN6

## Modulo ESP32
designator J?, comment ESP32
Header Modulo ESP32; Number of Contacts: 15; Library Control - Checked Footprint: Nikaum; Library Ref: Header; Library Control - Checked Schematic: Nikaum; Library Control - Last Project that Used: *; Library Control - Last Update: *; Library Control - Person that Checked Footprint: *; Library Control - Person that Checked Schematic: *; Library Control - Person that did the Last Update Schematic: Nikaum; Library Control - Persont that did the Last Update Footprint: Nikaum
footprint Modulo ESP32
pins: 3V3, EN, GND, GND, PIN2 GPIO36 / ADC1 CH0 / Sensor VP / RTC_GPIO0, PIN3 GPIO39 / ADC1 CH3 / Sensor VN / RTC_GPIO3, PIN4 GPIO34 / ADC1 CH6 / RTC_GPIO4, PIN5 GPIO35 / ADC1 CH7 / RTC_GPIO5, PIN6 GPIO32 / ADC1 CH4 / TOUCH9 / RTC_GPIO9, PIN7 GPIO33 / ADC1 CH5 / TOUCH8 / RTC_GPIO8, PIN8 GPIO25 / ADC2 CH8 / DAC1 / RTC_GPIO6, PIN9 GPIO26 / ADC2 CH9 / DAC2 / RTC_GPIO7, PIN10 GPIO27 / ADC2 CH7 / TOUCH7 / RTC_GPIO17, PIN11 GPIO14 / ADC2 CH6 / TOUCH6 / HSPI CLK / RTC_GPIO16, PIN12 GPIO12 / ADC2 CH6 / TOUCH5 / HSPI MISO / RTC_GPIO15, PIN13 GPIO13 / ADC2 CH4 / TOUCH4 / HSPI MOSI / RTC_GPIO14, PIN16 GPIO23 / VSPI MOSI, PIN17 GPIO22 / I2C SCL, PIN18 GPIO1 / UART 0 TX, PIN19 GPIO3 / UART 0 RX, PIN20 GPIO21 / I2C SDA, PIN21 GPIO19 / VSPI MISO, PIN22 GPIO18 / VSPI CLK, PIN23 GPIO5 / VSPI CS0, PIN24 GPIO17 / UART 2 TX, PIN25 GPIO16 / UART 2 RX, PIN26 GPIO4 / ADC2 CH0 / TOUCH0 / RTC_GPIO10, PIN27 GPIO2 / ADC2 CH2 / TOUCH2 / RTC_GPIO12, PIN28 GPIO15 / ADC2 CH3 / TOUCH3 / HSPI CS0 / RTC_GPIO13, VIN

## Soquete Header
designator J?
Soquete header 2x2; Part Number: 7795; Number of Contacts: 4; Library Control - Person that did the Last Update Schematic: Bob; Library Ref: Header; Library Control - Checked Footprint: *; Library Control - Checked Schematic: *; Library Control - Last Project that Used: *; Library Control - Last Update: *; Library Control - Person that Checked Footprint: *; Library Control - Person that Checked Schematic: *; Library Control - Persont that did the Last Update Footprint: Bob; ComponentLink1Description: Mouser Link; ComponentLink1URL: https://br.mouser.com/ProductDetail/Keystone-Electronics/7795?qs=%2Fha2pyFadugxKnB1mqZXi3a%2FpgP5BtURpa4JyMyWIjU%3D
footprint SOQUETE HEADER
pins: 1 CON